# EAGLE library part MOLEX-48037 (library parts)
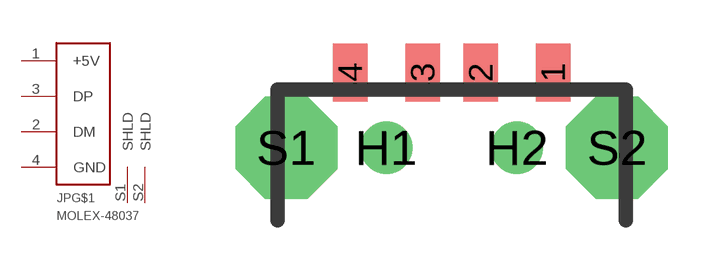
[diagram p2: symbol with the pads of USB-A-PLUG; footprint USB-A-PLUG]

Designator prefix JP; gates G$1=USB-1 G$2=SHLD G$3=SHLD

## MOLEX-48037  [USB-A-PLUG]
1  G$1:+5V  sup
2  G$1:DM
3  G$1:DP
4  G$1:GND  pwr
S1  G$2:SHLD  pwr
S2  G$3:SHLD  pwr

## Footprint USB-A-PLUG (pad centres in mm)
smd 1.2 x 2: 1 3.5,2.6; 2 1,2.6; 3 -1,2.6; 4 -3.5,2.6
drill 1.2 pad 1.21 round: H1 -2.25,0; H2 2.25,0
drill 2.5 octagon: S1 -5.7,0; S2 5.7,0